# EAGLE library part 6250XX21621_62502021621 (library 61201021621_Eagle_WR-BHD_rev19b)
WR-BHD 2.00 mm Male Box Header KIND PROPERTIES: Pitch 2 mm Gender:Male MATERIAL PROPERTIES: Insulator Material:PBT Insulator Flammability Rating UL94 V-0 Insulator Color:Black Contact Material :Copper Alloy Contact Plating :Gold Contact Type: Stamped GENERAL INFORMATION: Operating Temperature:-40 °C up to +125 °C Compliance:RoHS Working Voltage: 250 V (AC) Withstanding Voltage:500 V (AC) Contact Resistance: 20 mΩ Insulation Resistance:1000 MΩ CERTIFICATION UL Approval:E323964 PACKAGING PROPERTIES Packaging :Tray <https://katalog.we-online.com/media/images/v2/o32924v209%20Family_WR-BHD_6250xx21621.jpg> Details see: https://katalog.we-online.com/en/em/BHD_2_00_MALE_BOX_HEADER_6250XX21621 Updated by Yingchun,Shan 2019-10-31 2019 (C) Würth Elektronik
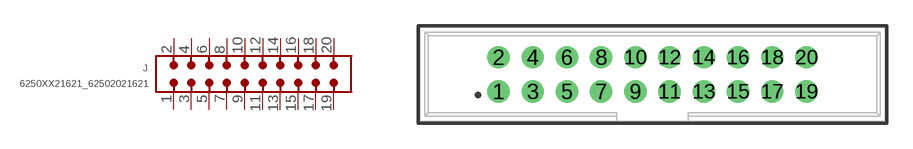
[diagram p71: symbol with the pads of 62502021621; footprint 62502021621]

Designator prefix J

## 6250XX21621_62502021621 (CONTACT-RESISTANCE: 20mOhm; DATASHEET-URL: https://katalog.we-online.com/em/datasheet/62502021621.pdf; GENDER: Male; IR: 2A; L: 27.2mm; MATES: WR-BHD 2.0mm Female IDC Connector with Strain Relief; MOUNT: THT; PACKAGING: Tray; PART-NUMBER: 62502021621; PINS: 20; PITCH: 2mm; TOL-R: max.; TYPE: Straight; WORKING-VOLTAGE: 250V(AC))  [62502021621]
1  1  pas
2  2  pas
3  3  pas
4  4  pas
5  5  pas
6  6  pas
7  7  pas
8  8  pas
9  9  pas
10  10  pas
11  11  pas
12  12  pas
13  13  pas
14  14  pas
15  15  pas
16  16  pas
17  17  pas
18  18  pas
19  19  pas
20  20  pas

## Footprint 62502021621 (pad centres in mm)
WR-BHD 2.00 mm Male Box Headerr, 20 pins
drill 0.8: 1 -9,-1; 2 -9,1; 3 -7,-1; 4 -7,1; 5 -5,-1; 6 -5,1; 7 -3,-1; 8 -3,1; 9 -1,-1; 10 -1,1; 11 1,-1; 12 1,1; 13 3,-1; 14 3,1; 15 5,-1; 16 5,1; 17 7,-1; 18 7,1; 19 9,-1; 20 9,1